# Altium footprint library LibMain.PCBLIB: 68 footprints (part 1 of 5)
Each footprint in its own frame and in the unit in brackets; x right, y up, seen from the top. Pads: shape width x height; smd on the part's side, far side on the other; paste and mask are expansions set on the pad; w line width, h text height; cw(c..) or ccw(c..) is an arc to the next point about the centre after c.
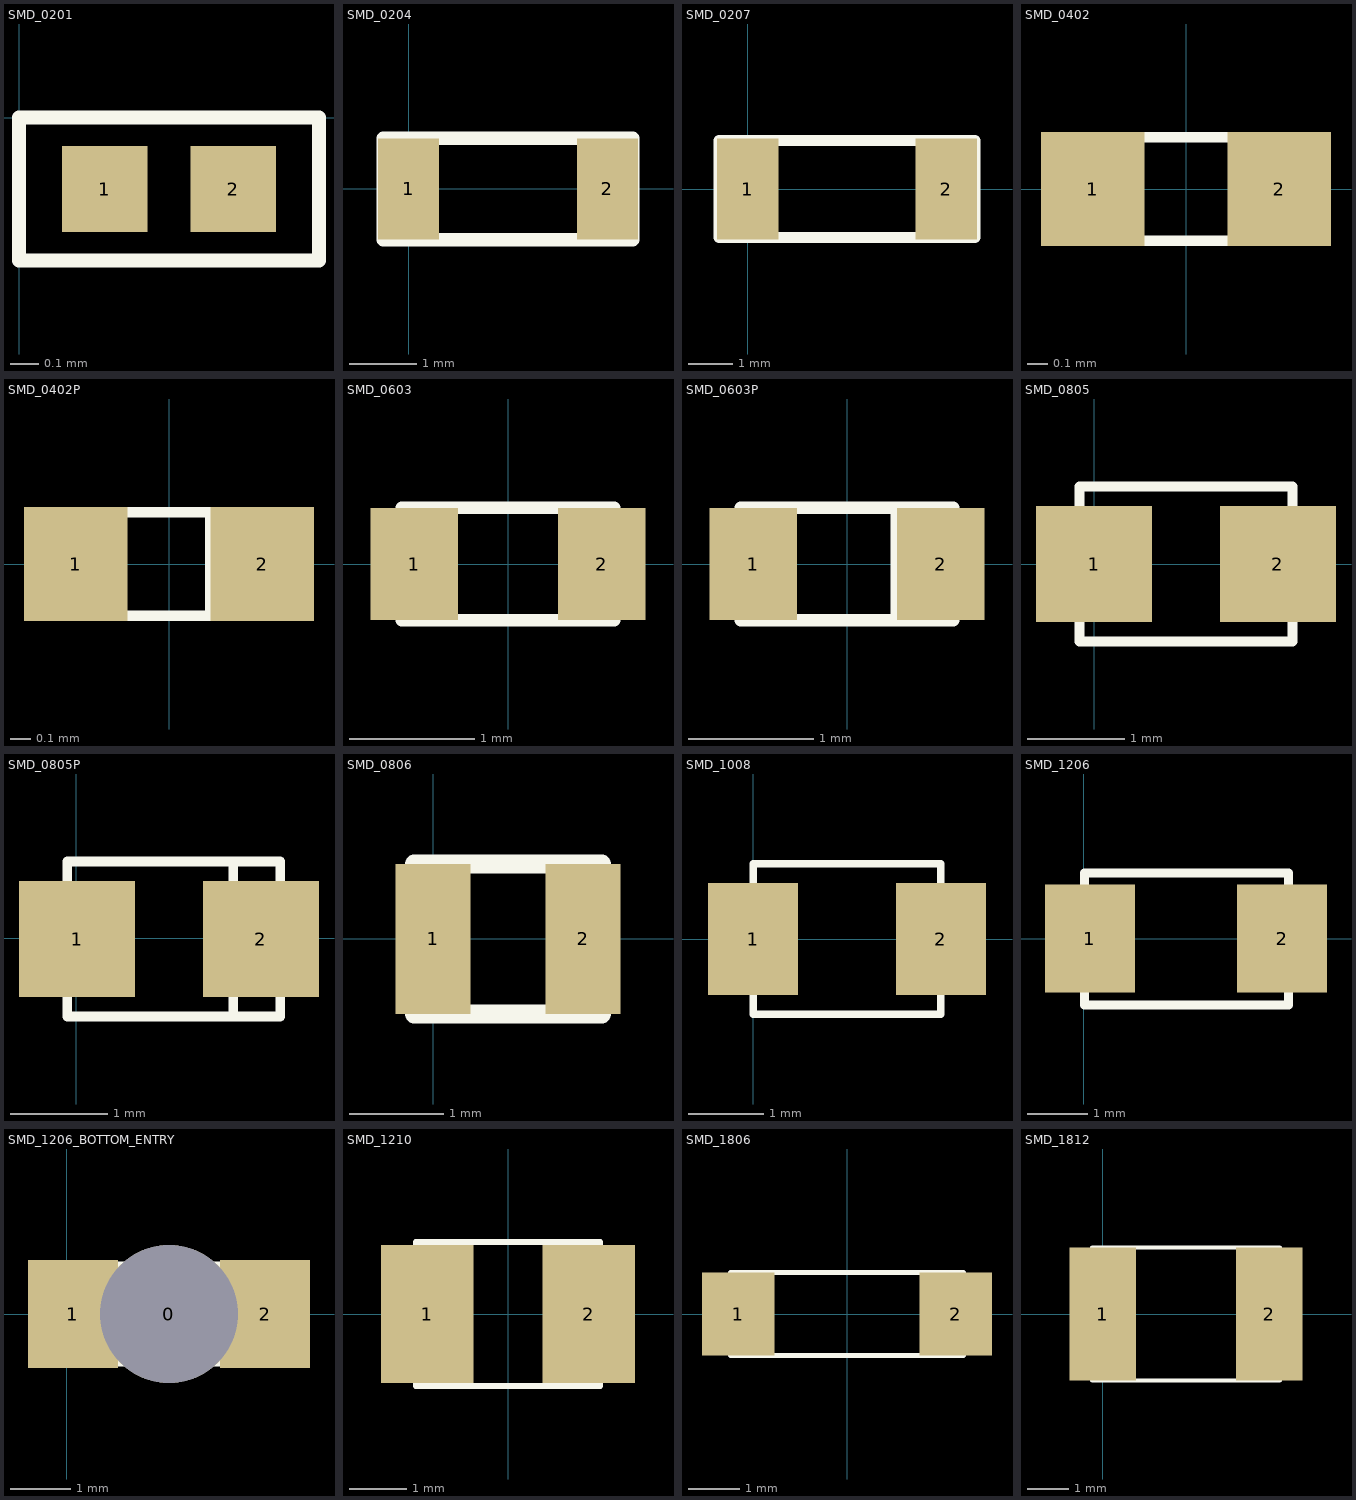
[diagram p0: the footprints below, top view; thin cyan lines are the x and y axes]

## SMD_0201 [mm] "SMD_0201"
pads (2):
  rect 0.3x0.3 smd: 1(0.3,-0.25) 2(0.75,-0.25)
Top Overlay:
  lines w0.05: 0,-0.5 1.05,-0.5 1.05,0 0,0 0,-0.5

## SMD_0204 [mm] "SMD_0204"
height 1.4
pads (2):
  rect 0.9x1.5 smd: 1(0,0) 2(2.95,0)
Top Overlay:
  lines w0.2: -0.375,-0.75 -0.375,0.75 3.325,0.75 3.325,-0.75 -0.375,-0.75

## SMD_0207 [mm] "SMD_0207"
height 2.2
pads (2):
  rect 1.4x2.3 smd: 1(0,0) 2(4.5,0)
Top Overlay:
  lines w0.254: -0.65,-1.1 5.15,-1.1 5.15,1.1 -0.65,1.1 -0.65,-1.1

## SMD_0402 [mm] "SMD_0402"
pads (2):
  rect 0.5x0.55 smd: 1(-0.45,0) 2(0.45,0)
Top Overlay:
  lines w0.05: -0.5,-0.25 0.5,-0.25 0.5,0.25 -0.5,0.25 -0.5,-0.25

## SMD_0402P [mm] "SMD_0402P"
pads (2):
  rect 0.5x0.55 smd: 1(-0.45,0) 2(0.45,0)
Top Overlay:
  lines w0.05: 0.2,-0.25 0.2,0.25 ; -0.5,-0.25 -0.5,0.25 0.5,0.25 0.5,-0.25 -0.5,-0.25

## SMD_0603 [mm] "SMD_0603"
pads (2):
  rect 0.7x0.9 smd: 1(-0.75,0) 2(0.75,0)
Top Overlay:
  lines w0.1: -0.85,-0.45 -0.85,0.45 0.85,0.45 0.85,-0.45 -0.85,-0.45

## SMD_0603P [mm] "SMD_0603P"
pads (2):
  rect 0.7x0.9 smd: 1(-0.75,0) 2(0.75,0)
Top Overlay:
  lines w0.1: 0.4,-0.45 0.4,0.45 ; -0.85,-0.45 0.85,-0.45 0.85,0.45 -0.85,0.45 -0.85,-0.45

## SMD_0805 [mm] "SMD_0805"
pads (2):
  rect 1.2x1.2 smd: 1(0,0) 2(1.9,0)
Top Overlay:
  lines w0.1: -0.15,-0.8 -0.15,0.8 2.05,0.8 2.05,-0.8 -0.15,-0.8

## SMD_0805P [mm] "SMD_0805 Polarised"
pads (2):
  rect 1.2x1.2 smd: 1(0.01,-0.007) 2(1.91,-0.007)
Top Overlay:
  lines w0.1: 1.625,-0.807 1.625,0.793 ; -0.09,-0.807 2.11,-0.807 2.11,0.793 -0.09,0.793 -0.09,-0.807

## SMD_0806 [mm] "SMD_0806"
height 1
pads (2):
  rect 0.8x1.6 smd: 1(0,0) 2(1.6,0)
Top Overlay:
  lines w0.2: -0.2,-0.8 -0.2,0.8 1.8,0.8 1.8,-0.8 -0.2,-0.8

## SMD_1008 [mm] "SMD_1008"
pads (2):
  rect 1.2x1.5 smd: 1(0,0) 2(2.5,0)
Top Overlay:
  lines w0.1: 0,-1 0,1 2.5,1 2.5,-1 0,-1

## SMD_1206 [mm] "SMD_1206"
pads (2):
  rect 1.5x1.8 smd: 1(0.1,0) 2(3.3,0)
Top Overlay:
  lines w0.15: 0.01,-1.105 0.01,1.095 3.41,1.095 3.41,-1.105 0.01,-1.105

## SMD_1206_BOTTOM_ENTRY [mm] "SMD_1206_BOTTOM_ENTRY"
pads (3):
  round 2.3 hole 2.3 unplated: 0(1.7,0)
  rect 1.5x1.8 smd: 1(0.1,0) 2(3.3,0)
Top Overlay:
  lines w0.15: 0,-0.8 0,0.8 ; 0.01,-0.8 3.41,-0.8 ; 0.01,0.8 3.41,0.8 ; 3.4,-0.8 3.4,0.8

## SMD_1210 [mm] "SMD_1210"
pads (2):
  rect 1.6x2.4 smd: 1(-1.4,0) 2(1.4,0)
Top Overlay:
  lines w0.1: -1.6,-1.25 -1.6,1.25 1.6,1.25 1.6,-1.25 -1.6,-1.25

## SMD_1806 [mm] "SMD_1806"
pads (2):
  rect 1.4x1.6 smd: 1(-2.1,0) 2(2.1,0)
Top Overlay:
  lines w0.1: -2.25,-0.8 2.25,-0.8 2.25,0.8 -2.25,0.8 -2.25,0 -2.25,-0.8

## SMD_1812 [mm] "SMD_1812"
pads (2):
  rect 1.6x3.2 smd: 1(0,0) 2(4,0)
Top Overlay:
  lines w0.1: -0.25,-1.6 4.25,-1.6 4.25,1.6 -0.25,1.6 -0.25,0 -0.25,-1.6